# EAGLE library part L9110H (library board)
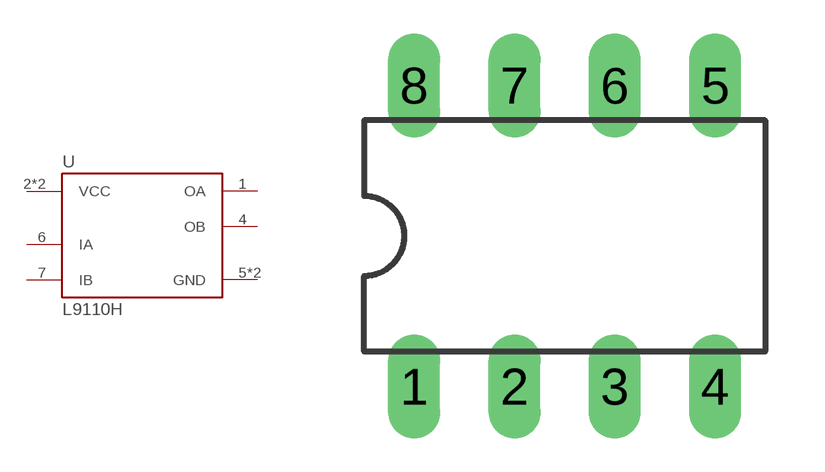
[diagram p3: symbol with the pads of DIL08; footprint DIL08]

Designator prefix -

## L9110H  [DIL08]
1  OA
2  VCC  pwr
3  VCC  pwr
4  OB
5  GND  pwr
6  IA
7  IB
8  GND  pwr

## Footprint DIL08 (pad centres in mm)
drill 0.813 long: 1 -3.81,-3.81; 2 -1.27,-3.81; 3 1.27,-3.81; 4 3.81,-3.81; 5 3.81,3.81; 6 1.27,3.81; 7 -1.27,3.81; 8 -3.81,3.81